# EAGLE library part SI7106DN (library Si7106dn)
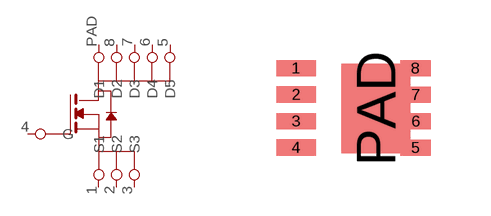
[diagram p0: symbol with the pads of POWERPAK_1212-8; footprint POWERPAK_1212-8]

Designator prefix -

## SI7106DN  [POWERPAK_1212-8]
1  S1
2  S2
3  S3
4  G
5  D5
6  D4
7  D3
8  D2
PAD  D1

## Footprint POWERPAK_1212-8 (pad centres in mm)
smd 0.99 x 0.405: 1 -2.27,0.805; 2 -2.27,0.145; 3 -2.27,-0.52; 4 -2.27,-1.18
smd 0.76 x 0.405: 5 0.725,-1.185; 6 0.725,-0.525; 7 0.72,0.14; 8 0.72,0.8
smd 1.725 x 2.235: PAD -0.275,-0.2